# EAGLE library part CKSR_*-NP (library CurrentProbe)
LEM CKSR xx-NP current transducer. 2 extra pads for pins 1 and 10.
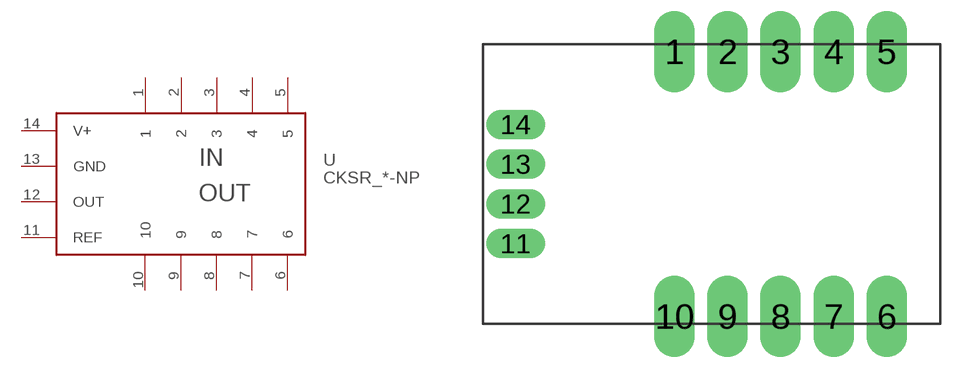
[diagram p0: symbol with the pads of CKSR_XX-NP; footprint CKSR_XX-NP]

Designator prefix U

## CKSR_6-NP  [CKSR_XX-NP]
1  1  pas
2  2  pas
3  3  pas
4  4  pas
5  5  pas
6  6  pas
7  7  pas
8  8  pas
9  9  pas
10  10  pas
11  REF  out
12  OUT  out
13  GND  pwr
14  V+  pwr

## Footprint CKSR_XX-NP (pad centres in mm)
LEM CKSR/CASR/CAS current transuducer.
drill 1.3 pad 1.9 long: 1 -6.35,6.35; 2 -3.81,6.35; 3 -1.27,6.35; 4 1.27,6.35; 5 3.81,6.35; 6 3.81,-6.35; 7 1.27,-6.35; 8 -1.27,-6.35; 9 -3.81,-6.35; 10 -6.35,-6.35
drill 0.9 pad 1.27 long: 11 -13.97,-2.857; 12 -13.97,-0.953; 13 -13.97,0.953; 14 -13.97,2.857